# Altium integrated library Z80.IntLib: 3 symbols
Pins are listed as number, name and electrical type; pins without a type are passive.

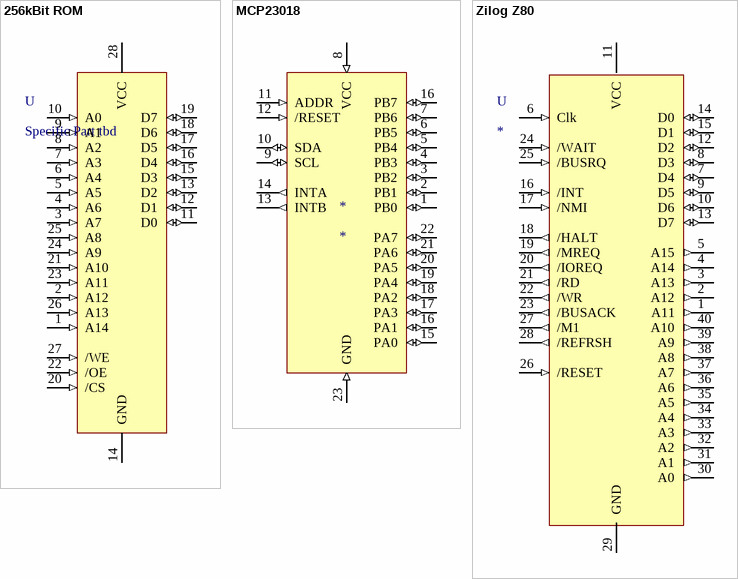
[diagram p0: symbols 256kBit ROM to Zilog Z80]

## 256kBit ROM
designator U, comment Specific Part tbd
pins: 1 A14 (in), 2 A12 (in), 3 A7 (in), 4 A6 (in), 5 A5 (in), 6 A4 (in), 7 A3 (in), 8 A2 (in), 9 A1 (in), 10 A0 (in), 11 D0 (io), 12 D1 (io), 13 D2 (io), 14 GND (power), 15 D3 (io), 16 D4 (io), 17 D5 (io), 18 D6 (io), 19 D7 (io), 20 /CS (in), 21 A10 (in), 22 /OE (in), 23 A11 (in), 24 A9 (in), 25 A8 (in), 26 A13 (in), 27 /WE (in), 28 VCC (power)

## MCP23018
designator *
footprint MCP23018 (16bit I2C Port expander)
pins: 1 PB0 (io), 2 PB1 (io), 3 PB2 (io), 4 PB3 (io), 5 PB4 (io), 6 PB5 (io), 7 PB6 (io), 8 VCC (in), 9 SCL (io), 10 SDA (io), 11 ADDR (in), 12 /RESET (in), 13 INTB (out), 14 INTA (out), 15 PA0 (io), 16 PA1 (io), 16 PB7 (io), 17 PA3 (io), 18 PA2 (io), 19 PA4 (io), 20 PA5 (io), 21 PA6 (io), 22 PA7 (io), 23 GND (in)

## Zilog Z80
designator U
https://www.zilog.com/docs/z80/um0080.pdf
footprint Z80
pins: 1 A11 (out), 2 A12 (out), 3 A13 (out), 4 A14 (out), 5 A15 (out), 6 Clk (in), 7 D4 (io), 8 D3 (io), 9 D5 (io), 10 D6 (io), 11 VCC (power), 12 D2 (io), 13 D7 (io), 14 D0 (io), 15 D1 (io), 16 /INT (in), 17 /NMI (in), 18 /HALT (out), 19 /MREQ (out), 20 /IOREQ (out), 21 /RD (out), 22 /WR (out), 23 /BUSACK (out), 24 /WAIT (in), 25 /BUSRQ (in), 26 /RESET (in), 27 /M1 (out), 28 /REFRSH (out), 29 GND (power), 30 A0 (out), 31 A1 (out), 32 A2 (out), 33 A3 (out), 34 A4 (out), 35 A5 (out), 36 A6 (out), 37 A7 (out), 38 A8 (out), 39 A9 (out), 40 A10 (out)